# Altium footprint library Bno055_Adafruit.PcbLib: 8 footprints
Each footprint in its own frame and in the unit in brackets; x right, y up, seen from the top. Pads: shape width x height; smd on the part's side, far side on the other; paste and mask are expansions set on the pad; w line width, h text height; cw(c..) or ccw(c..) is an arc to the next point about the centre after c.
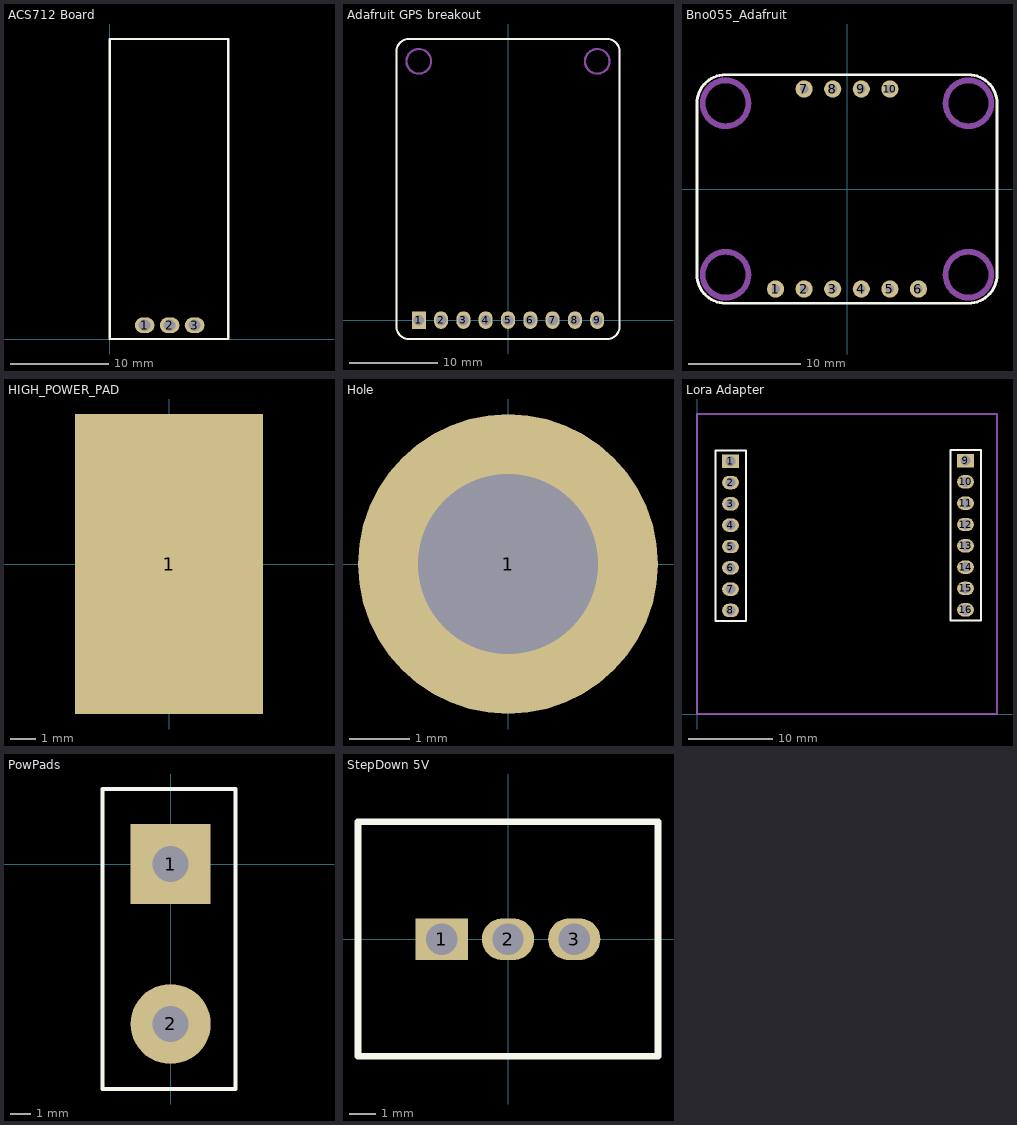
[diagram p0: the footprints below, top view; thin cyan lines are the x and y axes]

## ACS712 Board [mm]
pads (3):
  oval 2x1.6 hole 1.2: 1(3.52,1.4) 2(6.06,1.4) 3(8.6,1.4)
Top Overlay:
  lines w0.254: 0,0 12,0 12,30.5 0,30.5 0,0
3D body "ACS 712 Stromsensor für Arduino.step": height 11.5, standoff -1.5, extent 0,0 12,30.5

## Adafruit GPS breakout [mm]
pads (9):
  rect 1.6x2 hole 1.2: 1(-10.16,0)
  oval 1.6x2 hole 1.2: 2(-7.62,0) 3(-5.08,0) 4(-2.54,0) 5(0,0) 6(2.54,0) 7(5.08,0) 8(7.62,0) 9(10.16,0)
Top Overlay:
  lines w0.254: -12.7,-0.762 ccw(c-11.303,-0.762) -11.303,-2.159 11.303,-2.159 ccw(c11.303,-0.762) 12.7,-0.762 12.7,30.607 ccw(c11.303,30.607) 11.303,32.004 -11.303,32.004 ccw(c-11.303,30.607) -12.7,30.607 -12.7,-0.762
Mechanical 1:
  circle w0.254: c10.16,29.464 r1.397
  circle w0.254: c-10.16,29.464 r1.397

## Bno055_Adafruit [mil]
height 393.7
pads (10):
  round 60 hole 30: 1(-250,-350) 2(-150,-350) 3(-50,-350) 4(50,-350) 5(150,-350) 6(250,-350) 7(-150,350) 8(-50,350) 9(50,350) 10(150,350)
Top Overlay:
  lines w10: -525,-300 ccw(c-425,-300) -425,-400 425,-400 ccw(c425,-300) 525,-300 525,300 ccw(c425,300) 425,400 -425,400 ccw(c-425,300) -525,300 -525,-300
Mechanical 1:
  circle w20: c425,300 r80
  circle w20: c-425,300 r80
  circle w20: c425,-300 r80
  circle w20: c-425,-300 r80
  circle w20: c425,-300 r80
  circle w20: c-425,-300 r80
3D body "Adafruit_BNO055_AP214.STEP": height 163.88, standoff -1.47, extent -525,-401.57 525,398.43

## HIGH_POWER_PAD [mm]
pads (1):
  rect 7.5x12 all layers, no hole: 1(0,0)

## Hole [mm]
pads (1):
  round 5 hole 3: 1(0,0)

## Lora Adapter [mm]
pads (16):
  rect 2x1.6 hole 1.2: 1(4,30.12) 9(32,30.2)
  oval 2x1.6 hole 1.2: 2(4,27.58) 3(4,25.04) 4(4,22.5) 5(4,19.96) 6(4,17.42) 7(4,14.88) 8(4,12.34) 10(32,27.66) 11(32,25.12) 12(32,22.58) 13(32,20.04) 14(32,17.5) 15(32,14.96) 16(32,12.42)
Top Layer:
  lines w0.5: 4,12.34 4.66,12.34 4.66,12.178 ; 31.96,22.54 32,22.58
Top Overlay:
  lines w0.254: 2.222,11.07 5.835,11.07 5.835,31.39 2.222,31.39 2.222,11.07 ; 30.222,11.15 33.835,11.15 33.835,31.47 30.222,31.47 30.222,11.15
Board:
  lines w0.254: 0,0 35.75,0 35.75,35.75 0,35.75 0,0
3D body "LoraAdapter.step": height 9.78, standoff -2.88, extent -0.1,0.1 35.9,35.6

## PowPads [mm]
pads (2):
  rect 4x4 hole 1.8: 1(0,0)
  round 4 hole 1.8: 2(0,-8)
Top Overlay:
  lines w0.2: -3.415,-11.25 -3.415,3.75 3.25,3.75 3.25,-11.25 -3.415,-11.25

## StepDown 5V [mm] "Buck converter DC-DC 5V - Mornsun"
pads (3):
  rect 2x1.6 hole 1.2: 1(-2.54,0)
  oval 2x1.6 hole 1.2: 2(0,0) 3(2.54,0)
Top Overlay:
  lines w0.254: -5.75,-4.488 5.75,-4.488 5.75,4.5 -5.75,4.5 -5.75,-4.488
3D body "BuckDC_5V_Mornsun.STEP": height 17.51, standoff -4.09, extent -5.75,-4.6 5.75,4.5